# EAGLE library part MAX11613 (library daqcs)
12-bit SAR ADC, 94.4kSamples/s, 4-Channel Single-Ended or 2-Channel Fully Differential (MUXed), I2C Interface MAX11613EUA+ Single-Supply: 2.7V to 3.6V Ultra-Small Packages: 8-Pin μMAX Internal Reference: 2.048V (MAX11613
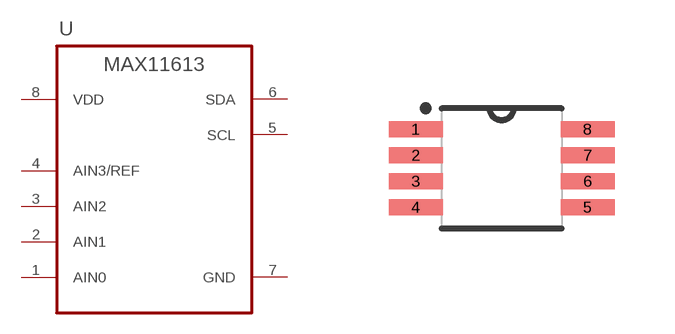
[diagram p3: symbol with the pads of SOP65P135X040-8N; footprint SOP65P135X040-8N]

Designator prefix U

## MAX11613EUA+ (DATASHEET: HW/docs/projects/raspi_zero_power_sensor_hat/datasheets/extras/MAX11612-MAX11617.pdf; INTERNAL_REF: 2.048V; MANUFACTURER: Maxim; MANUFACTURER_PN: MAX11613EUA+; RESOLUTION: 12b; SAMPLE_RATE: 94.4k; VALUE: MAX11613EUA+; VENDOR: Digi-key; VENDOR_PN: MAX11613EUA+-ND)  [SOP65P135X040-8N]
1  AIN0  in
2  AIN1  in
3  AIN2  in
4  AIN3/REF  in
5  SCL  in
6  SDA
7  GND  pwr
8  VDD  pwr

## Footprint SOP65P135X040-8N (pad centres in mm)
smd 1.35 x 0.4: 1 -2.15,0.975; 2 -2.15,0.325; 3 -2.15,-0.325; 4 -2.15,-0.975; 5 2.15,-0.975; 6 2.15,-0.325; 7 2.15,0.325; 8 2.15,0.975